# Altium footprint library MCU.PcbLib: 8 footprints
Each footprint in its own frame and in the unit in brackets; x right, y up, seen from the top. Pads: shape width x height; smd on the part's side, far side on the other; paste and mask are expansions set on the pad; w line width, h text height; cw(c..) or ccw(c..) is an arc to the next point about the centre after c.
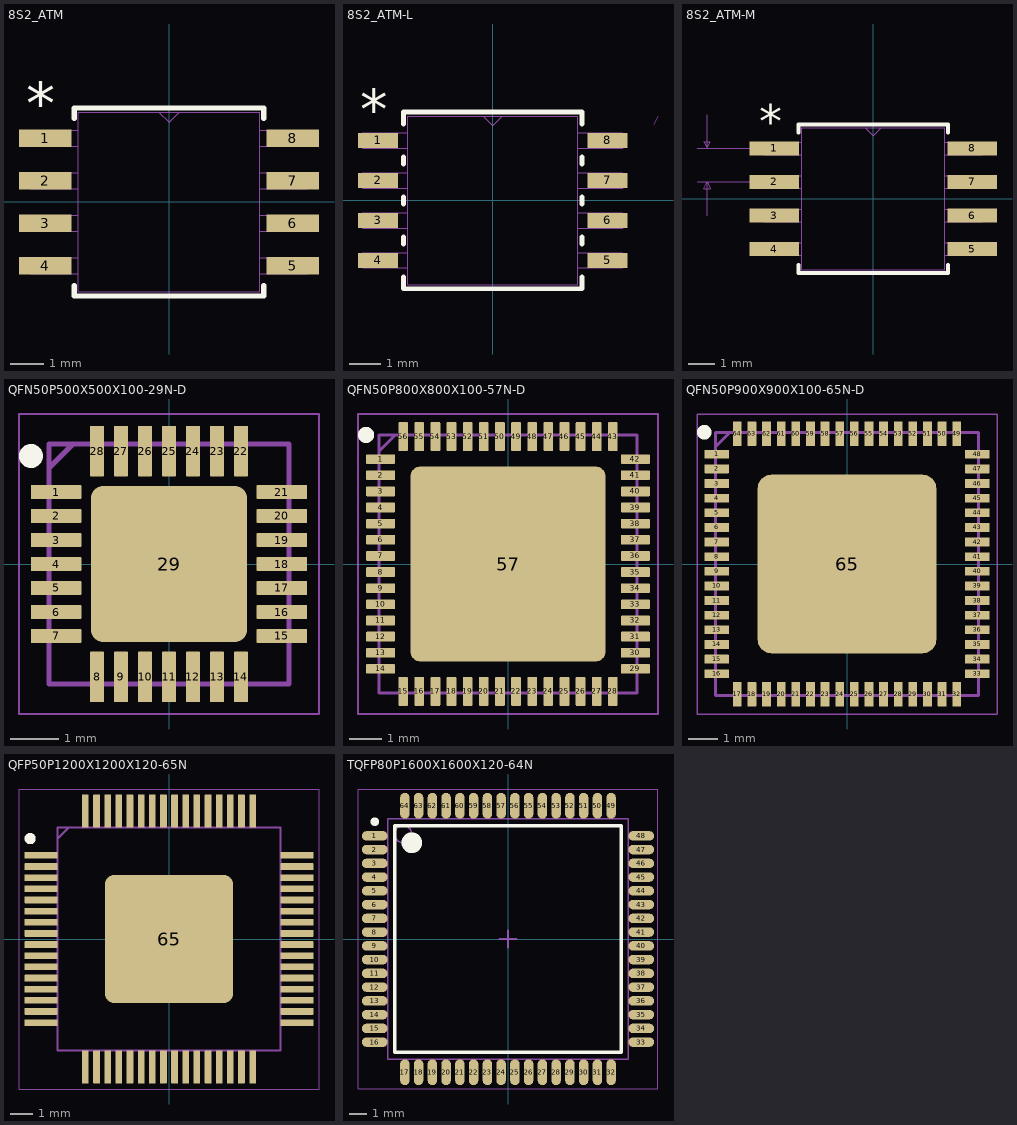
[diagram p0: the footprints below, top view; thin cyan lines are the x and y axes]

## 8S2_ATM [mil]
pads (8):
  rect 62x21 smd paste+0 mask+0: 1(-145.5,75) 2(-145.5,25) 3(-145.5,-25) 4(-145.5,-75) 5(145.5,-75) 6(145.5,-25) 7(145.5,25) 8(145.5,75)
Top Overlay:
  lines w6: -111.5,-98.25 -111.5,-110.5 111.5,-110.5 111.5,-98.25 ; -111.5,98.25 -111.5,110.5 111.5,110.5 111.5,98.25
  text "*" at -168,91 h50
Mechanical 13:
  lines w1: -12,105.5 0,93.5 12,105.5 ; -162.5,-84.5 -162.5,-65.5 -106.5,-65.5 -106.5,-84.5 -162.5,-84.5 ; -162.5,-34.5 -162.5,-15.5 -106.5,-15.5 -106.5,-34.5 -162.5,-34.5 ; -162.5,15.5 -162.5,34.5 -106.5,34.5 -106.5,15.5 -162.5,15.5 ; -162.5,65.5 -162.5,84.5 -106.5,84.5 -106.5,65.5 -162.5,65.5 ; -106.5,-105.5 106.5,-105.5 106.5,105.5 -106.5,105.5 -106.5,-105.5 ; 106.5,-84.5 106.5,-65.5 162.5,-65.5 162.5,-84.5 106.5,-84.5 ; 106.5,-34.5 106.5,-15.5 162.5,-15.5 162.5,-34.5 106.5,-34.5 ; 106.5,15.5 106.5,34.5 162.5,34.5 162.5,15.5 106.5,15.5 ; 106.5,65.5 106.5,84.5 162.5,84.5 162.5,65.5 106.5,65.5
  text "*" at -104,52.5 h50
3D body "8S2_ATM.step": height 85.16, standoff 0, extent -162.52,-105.51 162.52,105.51

## 8S2_ATM-L [mil]
pads (8):
  rect 50x19 smd paste+0 mask+0: 1(-143.5,75) 2(-143.5,25) 3(-143.5,-25) 4(-143.5,-75) 5(143.5,-75) 6(143.5,-25) 7(143.5,25) 8(143.5,75)
Top Overlay:
  lines w6: -111.5,-95.57 -111.5,-110.5 111.5,-110.5 111.5,-95.57 ; -111.5,-54.43 -111.5,-45.57 ; -111.5,-4.43 -111.5,4.43 ; -111.5,45.57 -111.5,54.43 ; -111.5,95.57 -111.5,110.5 111.5,110.5 111.5,95.57 ; 111.5,-54.43 111.5,-45.57 ; 111.5,-4.43 111.5,4.43 ; 111.5,45.57 111.5,54.43
  text "*" at -166,89 h50
Mechanical 7:
  lines w1: 201.5,95.5 206.5,105.5
Mechanical 13:
  lines w1: -12,105.5 0,93.5 12,105.5 ; -162.5,-84.5 -162.5,-65.5 -106.5,-65.5 -106.5,-84.5 -162.5,-84.5 ; -162.5,-34.5 -162.5,-15.5 -106.5,-15.5 -106.5,-34.5 -162.5,-34.5 ; -162.5,15.5 -162.5,34.5 -106.5,34.5 -106.5,15.5 -162.5,15.5 ; -162.5,65.5 -162.5,84.5 -106.5,84.5 -106.5,65.5 -162.5,65.5 ; -106.5,-105.5 106.5,-105.5 106.5,105.5 -106.5,105.5 -106.5,-105.5 ; 106.5,-84.5 106.5,-65.5 162.5,-65.5 162.5,-84.5 106.5,-84.5 ; 106.5,-34.5 106.5,-15.5 162.5,-15.5 162.5,-34.5 106.5,-34.5 ; 106.5,15.5 106.5,34.5 162.5,34.5 162.5,15.5 106.5,15.5 ; 106.5,65.5 106.5,84.5 162.5,84.5 162.5,65.5 106.5,65.5
  text "*" at -104,52.5 h50
3D body "8S2_ATM.step": height 85.16, standoff 0, extent -162.52,-105.51 162.52,105.51

## 8S2_ATM-M [mil]
pads (8):
  rect 74x21 smd paste+0 mask+0: 1(-147.5,75) 2(-147.5,25) 3(-147.5,-25) 4(-147.5,-75) 5(147.5,-75) 6(147.5,-25) 7(147.5,25) 8(147.5,75)
Top Overlay:
  lines w6: -111.5,-98.6 -111.5,-110.5 111.5,-110.5 111.5,-98.6 ; -111.5,98.6 -111.5,110.5 111.5,110.5 111.5,98.6
  text "*" at -170,91 h50
Mechanical 7:
  lines w1: -262.5,25 -147.5,25 ; -262.5,75 -147.5,75 ; -247.5,-25 -247.5,25 ; -247.5,125 -247.5,75 ; -247.5,25 -252.5,15 -242.5,15 -247.5,25 ; -247.5,75 -252.5,85 -242.5,85 -247.5,75
  text "0.05in/1.27mm" at -430,37.5 h25
Mechanical 13:
  lines w1: -12,105.5 0,93.5 12,105.5 ; -162.5,-84.5 -162.5,-65.5 -106.5,-65.5 -106.5,-84.5 -162.5,-84.5 ; -162.5,-34.5 -162.5,-15.5 -106.5,-15.5 -106.5,-34.5 -162.5,-34.5 ; -162.5,15.5 -162.5,34.5 -106.5,34.5 -106.5,15.5 -162.5,15.5 ; -162.5,65.5 -162.5,84.5 -106.5,84.5 -106.5,65.5 -162.5,65.5 ; -106.5,-105.5 106.5,-105.5 106.5,105.5 -106.5,105.5 -106.5,-105.5 ; 106.5,-84.5 106.5,-65.5 162.5,-65.5 162.5,-84.5 106.5,-84.5 ; 106.5,-34.5 106.5,-15.5 162.5,-15.5 162.5,-34.5 106.5,-34.5 ; 106.5,15.5 106.5,34.5 162.5,34.5 162.5,15.5 106.5,15.5 ; 106.5,65.5 106.5,84.5 162.5,84.5 162.5,65.5 106.5,65.5
3D body "8S2_ATM.step": height 85.16, standoff 0, extent -162.52,-105.51 162.52,105.51

## QFN50P500X500X100-29N-D [mm]
pads (29):
  rrect15% 1.05x0.3 smd: 1(-2.35,1.5) 2(-2.35,1) 3(-2.35,0.5) 4(-2.35,0) 5(-2.35,-0.5) 6(-2.35,-1) 7(-2.35,-1.5) 15(2.35,-1.5) 16(2.35,-1) 17(2.35,-0.5) 18(2.35,0) 19(2.35,0.5) 20(2.35,1) 21(2.35,1.5)
  rrect15% 0.3x1.05 smd: 8(-1.5,-2.35) 9(-1,-2.35) 10(-0.5,-2.35) 11(0,-2.35) 12(0.5,-2.35) 13(1,-2.35) 14(1.5,-2.35) 22(1.5,2.35) 23(1,2.35) 24(0.5,2.35) 25(0,2.35) 26(-0.5,2.35) 27(-1,2.35) 28(-1.5,2.35)
  rrect15% 3.25x3.25 smd: 29(0,0)
Top Overlay:
  circle w0.25: c-2.875,2.25 r0.125
Mechanical 13:
  lines w0.1: -2.5,2 -2,2.5 ; -2.5,-2.5 2.5,-2.5 2.5,2.5 -2.5,2.5 -2.5,-2.5
Mechanical 15:
  lines w0.05: -3.125,-3.125 3.125,-3.125 3.125,3.125 -3.125,3.125 -3.125,-3.125
3D body "DRV8824RHDT.stp": height 1, standoff 0, extent -2.5,-2.5 2.5,2.5

## QFN50P800X800X100-57N-D [mm]
pads (57):
  rrect20% 0.9x0.3 smd: 1(-3.95,3.25) 2(-3.95,2.75) 3(-3.95,2.25) 4(-3.95,1.75) 5(-3.95,1.25) 6(-3.95,0.75) 7(-3.95,0.25) 8(-3.95,-0.25) 9(-3.95,-0.75) 10(-3.95,-1.25) 11(-3.95,-1.75) 12(-3.95,-2.25) 13(-3.95,-2.75) 14(-3.95,-3.25) 29(3.95,-3.25) 30(3.95,-2.75) 31(3.95,-2.25) 32(3.95,-1.75) 33(3.95,-1.25) 34(3.95,-0.75) 35(3.95,-0.25) 36(3.95,0.25) 37(3.95,0.75) 38(3.95,1.25) 39(3.95,1.75) 40(3.95,2.25) 41(3.95,2.75) 42(3.95,3.25)
  rrect20% 0.3x0.9 smd: 15(-3.25,-3.95) 16(-2.75,-3.95) 17(-2.25,-3.95) 18(-1.75,-3.95) 19(-1.25,-3.95) 20(-0.75,-3.95) 21(-0.25,-3.95) 22(0.25,-3.95) 23(0.75,-3.95) 24(1.25,-3.95) 25(1.75,-3.95) 26(2.25,-3.95) 27(2.75,-3.95) 28(3.25,-3.95) 43(3.25,3.95) 44(2.75,3.95) 45(2.25,3.95) 46(1.75,3.95) 47(1.25,3.95) 48(0.75,3.95) 49(0.25,3.95) 50(-0.25,3.95) 51(-0.75,3.95) 52(-1.25,3.95) 53(-1.75,3.95) 54(-2.25,3.95) 55(-2.75,3.95) 56(-3.25,3.95)
  rrect10% 6.05x6.05 smd: 57(0,0)
Top Overlay:
  circle w0.25: c-4.4,4 r0.125
Mechanical 13:
  lines w0.1: -4,3.5 -3.5,4 ; -4,-4 4,-4 4,4 -4,4 -4,-4
Mechanical 15:
  lines w0.05: -4.65,-4.65 4.65,-4.65 4.65,4.65 -4.65,4.65 -4.65,-4.65
3D body "LAN9303-ABZJ.stp": height 1, standoff 0, extent -4.05,-4.05 4.05,4.05

## QFN50P900X900X100-65N-D [mm]
pads (65):
  rrect15% 0.85x0.3 smd: 1(-4.45,3.75) 2(-4.45,3.25) 3(-4.45,2.75) 4(-4.45,2.25) 5(-4.45,1.75) 6(-4.45,1.25) 7(-4.45,0.75) 8(-4.45,0.25) 9(-4.45,-0.25) 10(-4.45,-0.75) 11(-4.45,-1.25) 12(-4.45,-1.75) 13(-4.45,-2.25) 14(-4.45,-2.75) 15(-4.45,-3.25) 16(-4.45,-3.75) 33(4.45,-3.75) 34(4.45,-3.25) 35(4.45,-2.75) 36(4.45,-2.25) 37(4.45,-1.75) 38(4.45,-1.25) 39(4.45,-0.75) 40(4.45,-0.25) 41(4.45,0.25) 42(4.45,0.75) 43(4.45,1.25) 44(4.45,1.75) 45(4.45,2.25) 46(4.45,2.75) 47(4.45,3.25) 48(4.45,3.75)
  rrect15% 0.3x0.85 smd: 17(-3.75,-4.45) 18(-3.25,-4.45) 19(-2.75,-4.45) 20(-2.25,-4.45) 21(-1.75,-4.45) 22(-1.25,-4.45) 23(-0.75,-4.45) 24(-0.25,-4.45) 25(0.25,-4.45) 26(0.75,-4.45) 27(1.25,-4.45) 28(1.75,-4.45) 29(2.25,-4.45) 30(2.75,-4.45) 31(3.25,-4.45) 32(3.75,-4.45) 49(3.75,4.45) 50(3.25,4.45) 51(2.75,4.45) 52(2.25,4.45) 53(1.75,4.45) 54(1.25,4.45) 55(0.75,4.45) 56(0.25,4.45) 57(-0.25,4.45) 58(-0.75,4.45) 59(-1.25,4.45) 60(-1.75,4.45) 61(-2.25,4.45) 62(-2.75,4.45) 63(-3.25,4.45) 64(-3.75,4.45)
  rrect15% 6.1x6.1 smd: 65(0,0)
Top Overlay:
  circle w0.25: c-4.875,4.5 r0.125
Mechanical 13:
  lines w0.1: -4.5,4 -4,4.5 ; -4.5,-4.5 4.5,-4.5 4.5,4.5 -4.5,4.5 -4.5,-4.5
Mechanical 15:
  lines w0.05: -5.125,-5.125 5.125,-5.125 5.125,5.125 -5.125,5.125 -5.125,-5.125
3D body "LAN9353_ML.stp": height 1, standoff 0, extent -4.55,-4.55 4.55,4.55

## QFP50P1200X1200X120-65N [mm]
pads (65):
  rrect15% 1.475x0.3 smd: 1(-5.738,3.75) 2(-5.738,3.25) 3(-5.738,2.75) 4(-5.738,2.25) 5(-5.738,1.75) 6(-5.738,1.25) 7(-5.738,0.75) 8(-5.738,0.25) 9(-5.738,-0.25) 10(-5.738,-0.75) 11(-5.738,-1.25) 12(-5.738,-1.75) 13(-5.738,-2.25) 14(-5.738,-2.75) 15(-5.738,-3.25) 16(-5.738,-3.75) 33(5.738,-3.75) 34(5.738,-3.25) 35(5.738,-2.75) 36(5.738,-2.25) 37(5.738,-1.75) 38(5.738,-1.25) 39(5.738,-0.75) 40(5.738,-0.25) 41(5.738,0.25) 42(5.738,0.75) 43(5.738,1.25) 44(5.738,1.75) 45(5.738,2.25) 46(5.738,2.75) 47(5.738,3.25) 48(5.738,3.75)
  rrect15% 0.3x1.475 smd: 17(-3.75,-5.738) 18(-3.25,-5.738) 19(-2.75,-5.738) 20(-2.25,-5.738) 21(-1.75,-5.738) 22(-1.25,-5.738) 23(-0.75,-5.738) 24(-0.25,-5.738) 25(0.25,-5.738) 26(0.75,-5.738) 27(1.25,-5.738) 28(1.75,-5.738) 29(2.25,-5.738) 30(2.75,-5.738) 31(3.25,-5.738) 32(3.75,-5.738) 49(3.75,5.738) 50(3.25,5.738) 51(2.75,5.738) 52(2.25,5.738) 53(1.75,5.738) 54(1.25,5.738) 55(0.75,5.738) 56(0.25,5.738) 57(-0.25,5.738) 58(-0.75,5.738) 59(-1.25,5.738) 60(-1.75,5.738) 61(-2.25,5.738) 62(-2.75,5.738) 63(-3.25,5.738) 64(-3.75,5.738)
  rrect15% 5.75x5.75 smd: 65(0,0)
Top Overlay:
  circle w0.25: c-6.225,4.5 r0.125
Mechanical 13:
  lines w0.1: -5,4.5 -4.5,5 ; -5,-5 -5,5 5,5 5,-5 -5,-5
Mechanical 15:
  lines w0.05: -6.725,-6.725 -6.725,6.725 6.725,6.725 6.725,-6.725 -6.725,-6.725
3D body "LAN9353I_PT.stp": height 1.2, standoff 0, extent -6,-6 6,6

## TQFP80P1600X1600X120-64N [mm] "TQFP, 64-Leads, Body 14,00x14,00mm, Pitch 0,80mm, IPC Medium Density"
height 1.2
pads (64):
  oval 1.5x0.55 smd: 1(-7.75,6) 2(-7.75,5.2) 3(-7.75,4.4) 4(-7.75,3.6) 5(-7.75,2.8) 6(-7.75,2) 7(-7.75,1.2) 8(-7.75,0.4) 9(-7.75,-0.4) 10(-7.75,-1.2) 11(-7.75,-2) 12(-7.75,-2.8) 13(-7.75,-3.6) 14(-7.75,-4.4) 15(-7.75,-5.2) 16(-7.75,-6) 33(7.75,-6) 34(7.75,-5.2) 35(7.75,-4.4) 36(7.75,-3.6) 37(7.75,-2.8) 38(7.75,-2) 39(7.75,-1.2) 40(7.75,-0.4) 41(7.75,0.4) 42(7.75,1.2) 43(7.75,2) 44(7.75,2.8) 45(7.75,3.6) 46(7.75,4.4) 47(7.75,5.2) 48(7.75,6)
  oval 0.55x1.5 smd: 17(-6,-7.75) 18(-5.2,-7.75) 19(-4.4,-7.75) 20(-3.6,-7.75) 21(-2.8,-7.75) 22(-2,-7.75) 23(-1.2,-7.75) 24(-0.4,-7.75) 25(0.4,-7.75) 26(1.2,-7.75) 27(2,-7.75) 28(2.8,-7.75) 29(3.6,-7.75) 30(4.4,-7.75) 31(5.2,-7.75) 32(6,-7.75) 49(6,7.75) 50(5.2,7.75) 51(4.4,7.75) 52(3.6,7.75) 53(2.8,7.75) 54(2,7.75) 55(1.2,7.75) 56(0.4,7.75) 57(-0.4,7.75) 58(-1.2,7.75) 59(-2,7.75) 60(-2.8,7.75) 61(-3.6,7.75) 62(-4.4,7.75) 63(-5.2,7.75) 64(-6,7.75)
Top Overlay:
  circle w0.25: c-7.75,6.825 r0.125
  circle w0.6: c-5.6,5.6 r0.3
  lines w0.2: -6.6,-6.6 -6.6,6.6 6.6,6.6 6.6,-6.6 -6.6,-6.6
Mechanical 13:
  circle w0.1: c-6.1,6.1 r0.5
  lines w0.1: -7,-7 -7,7 7,7 7,-7 -7,-7
Mechanical 15:
  lines w0.05: -8.725,-8.725 -8.725,8.725 8.725,8.725 8.725,-8.725 -8.725,-8.725
  lines w0.1: -0.5,0 0.5,0 ; 0,-0.5 0,0.5
3D body "TQFP80P1600X1600X120-64N.step": height 1.2, standoff 0, extent -8,-8 8,8